# Altium footprint library PCB - PASSIVES - IND 0402_1005 RF WW.PCBLIB: 1 footprints
Each footprint in its own frame and in the unit in brackets; x right, y up, seen from the top. Pads: shape width x height; smd on the part's side, far side on the other; paste and mask are expansions set on the pad; w line width, h text height; cw(c..) or ccw(c..) is an arc to the next point about the centre after c.
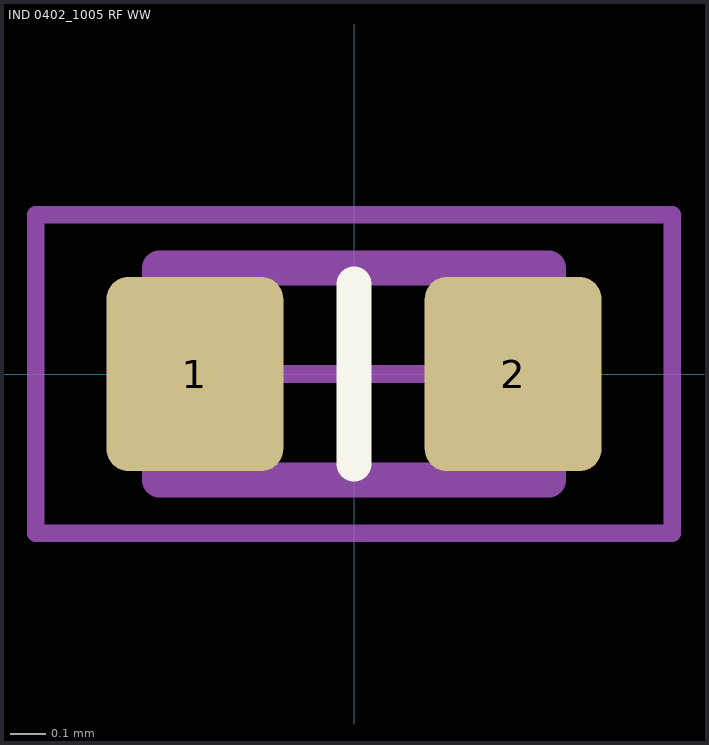
[diagram p0: the footprint, top view; thin cyan lines are the x and y axes]

## IND 0402_1005 RF WW [mm] "Chip Inductor, 2-Leads, Body 1.00x0.50mm, IPC High Density"
height 0.6
pads (2):
  rrect25% 0.5x0.55 smd: 1(-0.45,0) 2(0.45,0)
Top Overlay:
  lines w0.1: 0,-0.254 0,0.254
Top Assembly:
  lines w0.1: -0.55,-0.3 0.55,-0.3 0.55,0.3 -0.55,0.3 -0.55,-0.3
  text ".Designator" at 0.75,-0.226 h1
Top Courtyard:
  lines w0.05: -0.9,-0.45 0.9,-0.45 0.9,0.45 -0.9,0.45 -0.9,-0.45
Top Component Center:
  lines w0.05: -0.275,0 0.275,0 ; 0,-0.275 0,0.275
3D body "CAPC1005X60N EIA 0402.STEP": height 0.6, standoff 0, extent -0.5,-0.25 0.5,0.25